# EAGLE library part ESPRESSIF-ESP-07 (library ts_dev_boards)
ESP8266 Wifi module 07 - 16 pins
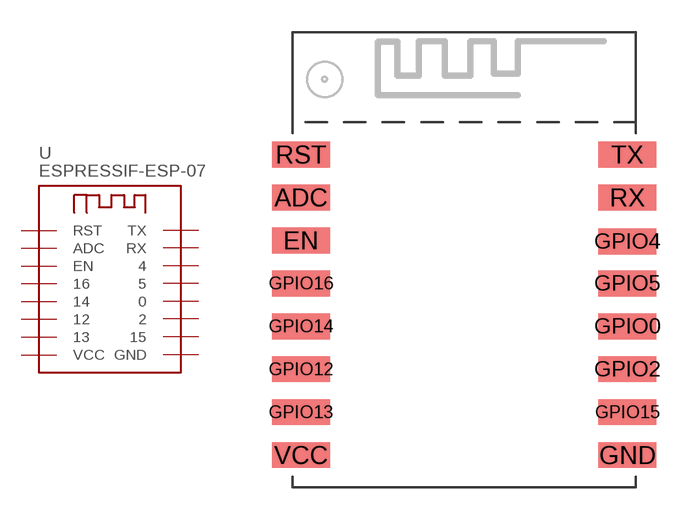
[diagram p9: symbol with the pads of ESP8266-ESP-07; footprint ESP8266-ESP-07]

Designator prefix -

## ESPRESSIF-ESP-07  [ESP8266-ESP-07]
ADC  ADC
EN  EN
GND  GND
GPIO0  0
GPIO2  2
GPIO4  4
GPIO5  5
GPIO12  12
GPIO13  13
GPIO14  14
GPIO15  15
GPIO16  16
RST  RST
RX  RX
TX  TX
VCC  VCC  pwr

## Footprint ESP8266-ESP-07 (pad centres in mm)
ESP8266 Module ESP-07 - 16 pins
smd 2.7 x 1.2: ADC -7.6,4.61; EN -7.6,2.61; GND 7.6,-7.39; GPIO0 7.6,-1.39; GPIO2 7.6,-3.39; GPIO4 7.6,2.562; GPIO5 7.6,0.61; GPIO12 -7.6,-3.39; GPIO13 -7.6,-5.39; GPIO14 -7.6,-1.39; GPIO15 7.6,-5.39; GPIO16 -7.6,0.61; RST -7.6,6.61; RX 7.6,4.61; TX 7.6,6.61; VCC -7.6,-7.39